# Altium schematic symbol library SMART_WATCH_TOP.SCHLIB: 37 symbols
Pins are listed as number, name and electrical type; pins without a type are passive.

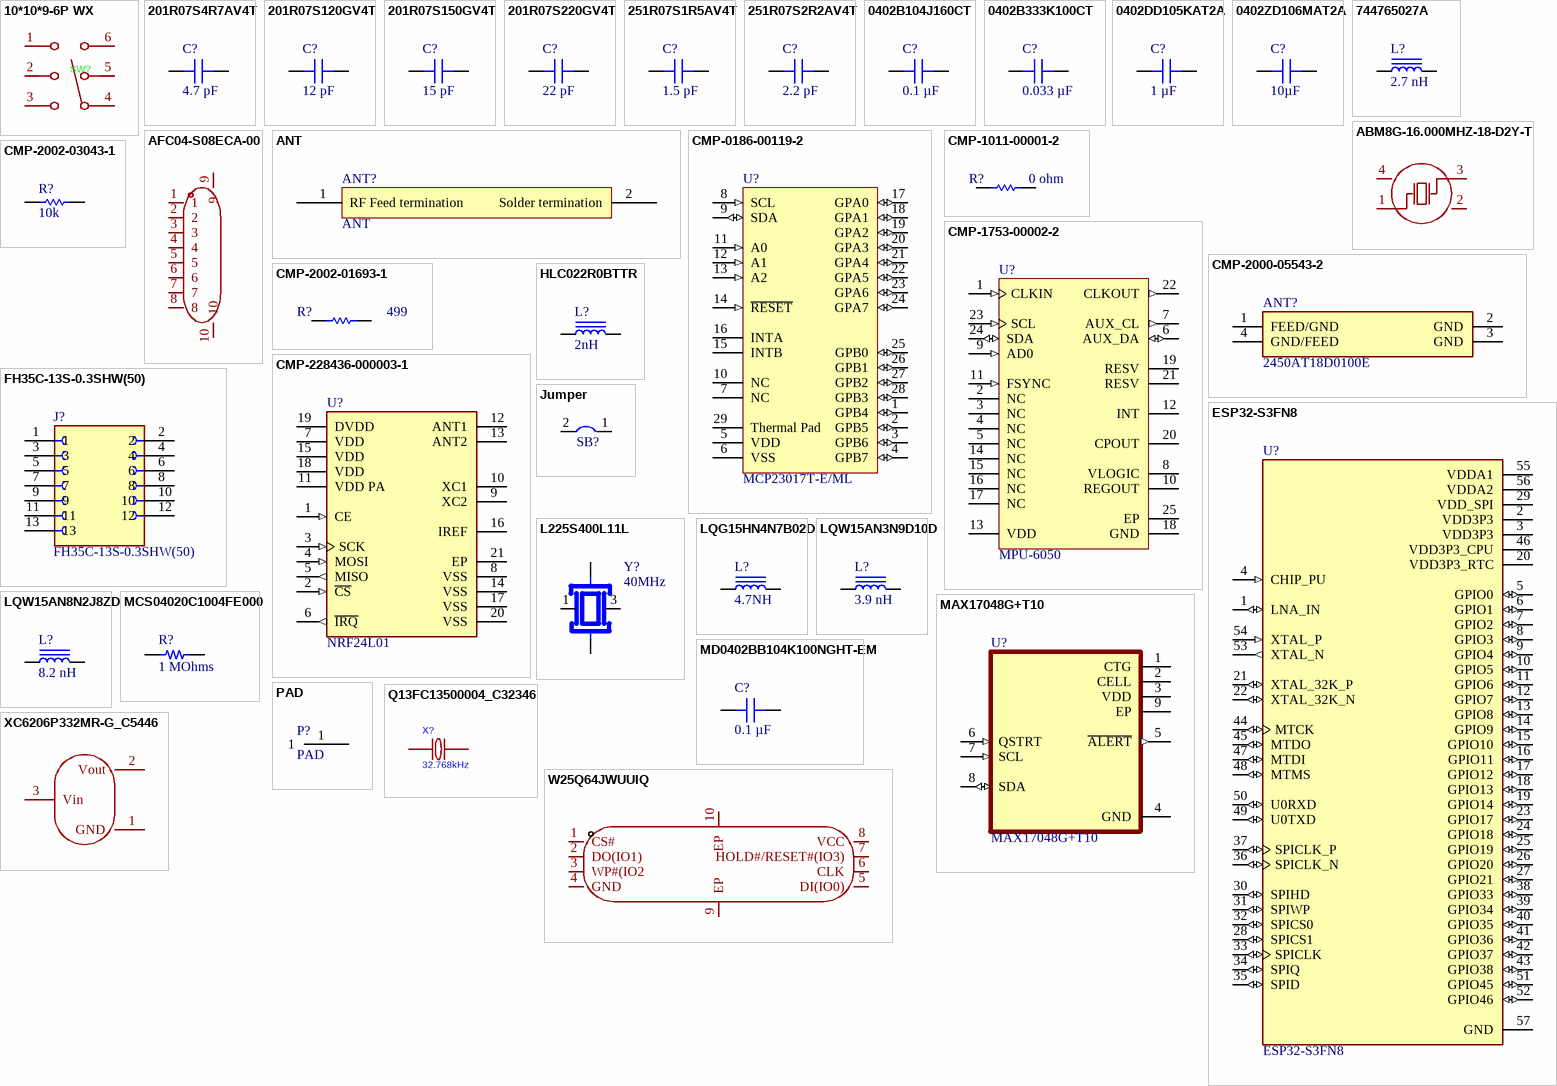
[diagram p0: symbols 10*10*9-6P WX to XC6206P332MR-G_C5446]

## 10*10*9-6P WX
designator SW?  (value not drawn)
Manufacturer: SHOU HAN(首韩); Add into BOM: yes; Symbol: 10*10*9-6P WX; Device: 10*10*9-6P WX; LCSC Part Name: 10*10*9-6P WX; Supplier Part: C2858290; Manufacturer Part: 10*10*9-6P WX; Supplier Footprint: SMD-6P,10x10mm; JLCPCB Part Class: Extended Part; Datasheet: https://atta.szlcsc.com/upload/public/pdf/source/20240424/64EDFF5ED40B20706A75A6A52414BAAA.pdf; Supplier: LCSC; Convert to PCB: yes
footprint SW-SMD-6P-L10.5-W10.0_C2858290
3D model SW-SMD-6P-L10.5-W10.0_C2858290
pins: 1, 2, 3, 4, 5, 6

## 201R07S4R7AV4T
designator C?, comment 4.7 pF
CAP CER 4.7PF 200V C0G/NP0 0402; Part Number: 201R07S4R7AV4T; manufacturer: Johanson Technology Inc.; Temperature Coefficient: C0G, NP0; Tolerance: ±0.05pF; Capacitance: 4.7 pF; Applications: RF, Microwave, High Frequency; componentlink1description: Datasheet; componentlink1url: https://www.johansontechnology.com/downloads/catalog/johanson-technology-multi-layer-high-q-capacitors.pdf; componentlink2description: DigiKey Link; componentlink2url: https://www.digikey.com/en/products/detail/johanson-technology-inc/201R07S4R7AV4T/9658851; Device Package: 0402 (1005 Metric); Features: High Q, Low Loss, Ultra Low ESR; lastupdated: 2/9/2024 8:04:23 PM; Lifecycle Status: Active; Minimum Order: 1; Mounting Type: Surface Mount, MLCC; Operating Temperature: -55°C ~ 125°C; Package / Case: 0402 (1005 Metric); packaging: TapeAndReel; partid: 45674; Part Status: Active; price: 0.15; series: S; Size / Dimension: 0.040" L x 0.020" W (1.02mm x 0.51mm); Supplier 1: DigiKey; Supplier Part Number 1: 712-1682-1-ND; Thickness (Max): 0.024" (0.61mm); value: 4.7 pF; Voltage - Rated: 200V
footprint CAP 0402_1005
pins: 1, 2

## 201R07S120GV4T
designator C?  Capacitance: 12 pF
CAP CER 12PF 200V C0G/NP0 0402; Part Number: 0402CG120J500NT; Manufacturer: FH (Guangdong Fenghua Advanced Tech); Applications: RF, Microwave, High Frequency; Device Package: 0402 (1005 Metric); Mounting Type: Surface Mount, MLCC; Size / Dimension: 0.040" L x 0.020" W (1.02mm x 0.51mm); MFR.Part #: 0402CG120J500NT; JLCPCB Part #: C1547
footprint CAP 0402_1005
pins: 1, 2

## 201R07S150GV4T
designator C?  Capacitance: 15 pF
CAP CER 15PF 200V C0G/NP0 0402; Part Number: 0402CG150J500NT; Manufacturer: FH (Guangdong Fenghua Advanced Tech); Applications: RF, Microwave, High Frequency; Device Package: 0402 (1005 Metric); Mounting Type: Surface Mount, MLCC; Size / Dimension: 0.040" L x 0.020" W (1.02mm x 0.51mm); MFR.Part #: 0402CG150J500NT; JLCPCB Part #: C1548
footprint CAP 0402_1005
pins: 1, 2

## 201R07S220GV4T
designator C?, comment 22 pF
CAP CER 22PF 200V C0G/NP0 0402; Part Number: 201R07S220GV4T; manufacturer: Johanson Technology Inc.; Temperature Coefficient: C0G, NP0; Tolerance: ±2%; Capacitance: 22 pF; Applications: RF, Microwave, High Frequency; componentlink1description: Datasheet; componentlink1url: https://www.johansontechnology.com/downloads/catalog/johanson-technology-multi-layer-high-q-capacitors.pdf; componentlink2description: DigiKey Link; componentlink2url: https://www.digikey.com/en/products/detail/johanson-technology-inc/201R07S220GV4T/9658867; Device Package: 0402 (1005 Metric); Features: High Q, Low Loss, Ultra Low ESR; lastupdated: 2/9/2024 8:04:18 PM; Lifecycle Status: Active; Minimum Order: 1; Mounting Type: Surface Mount, MLCC; Operating Temperature: -55°C ~ 125°C; Package / Case: 0402 (1005 Metric); packaging: TapeAndReel; partid: 45669; Part Status: Active; price: 0.06; series: S; Size / Dimension: 0.040" L x 0.020" W (1.02mm x 0.51mm); Supplier 1: DigiKey; Supplier Part Number 1: 712-1698-1-ND; Thickness (Max): 0.024" (0.61mm); value: 22 pF; Voltage - Rated: 200V
footprint CAP 0402_1005
pins: 1, 2

## 251R07S1R5AV4T
designator C?, comment 1.5 pF
CAP CER 1.5PF 250V C0G/NP0 0402; Part Number: 251R07S1R5AV4T; manufacturer: Johanson Technology Inc.; Temperature Coefficient: C0G, NP0; Tolerance: ±0.05pF; Capacitance: 1.5 pF; Applications: RF, Microwave, High Frequency; componentlink1description: Datasheet; componentlink1url: https://www.johansontechnology.com/downloads/catalog/johanson-technology-multi-layer-high-q-capacitors.pdf; componentlink2description: DigiKey Link; componentlink2url: https://www.digikey.com/en/products/detail/johanson-technology-inc/251R07S1R5AV4T/9658837; Device Package: 0402 (1005 Metric); Features: High Q, Low Loss, Ultra Low ESR; lastupdated: 2/9/2024 8:04:21 PM; Lifecycle Status: Active; Minimum Order: 1; Mounting Type: Surface Mount, MLCC; Operating Temperature: -55°C ~ 125°C; Package / Case: 0402 (1005 Metric); packaging: TapeAndReel; partid: 12240; Part Status: Active; price: 0.05; series: S; Size / Dimension: 0.040" L x 0.020" W (1.02mm x 0.51mm); Supplier 1: DigiKey; Supplier Part Number 1: 712-1668-1-ND; Thickness (Max): 0.024" (0.61mm); value: 1.5 pF; Voltage - Rated: 250V
footprint CAP 0402_1005
pins: 1, 2

## 251R07S2R2AV4T
designator C?, comment 2.2 pF
CAP CER 2.2PF 250V C0G/NP0 0402; Part Number: 251R07S2R2AV4T; manufacturer: Johanson Technology Inc.; Temperature Coefficient: C0G, NP0; Tolerance: ±0.05pF; Capacitance: 2.2 pF; Applications: RF, Microwave, High Frequency; componentlink1description: Datasheet; componentlink1url: https://www.johansontechnology.com/downloads/catalog/johanson-technology-multi-layer-high-q-capacitors.pdf; componentlink2description: DigiKey Link; componentlink2url: https://www.digikey.com/en/products/detail/johanson-technology-inc/251R07S2R2AV4T/9658843; Device Package: 0402 (1005 Metric); Features: High Q, Low Loss, Ultra Low ESR; lastupdated: 2/9/2024 8:04:21 PM; Lifecycle Status: Active; Minimum Order: 1; Mounting Type: Surface Mount, MLCC; Operating Temperature: -55°C ~ 125°C; Package / Case: 0402 (1005 Metric); packaging: TapeAndReel; partid: 12355; Part Status: Active; price: 0.15; series: S; Size / Dimension: 0.040" L x 0.020" W (1.02mm x 0.51mm); Supplier 1: DigiKey; Supplier Part Number 1: 712-1674-1-ND; Thickness (Max): 0.024" (0.61mm); value: 2.2 pF; Voltage - Rated: 250V
footprint CAP 0402_1005
pins: 1, 2

## 0402B104J160CT
designator C?  Capacitance: 0.1 µF
100nF 16V X7R ±10% 0402 Multilayer Ceramic Capacitors MLCC - SMD/SMT ROHS; Manufacturer: YAGEO; MFR.Part #: CC0402KRX7R7BB104; Device Package: 0402 (1005 Metric); Size / Dimension: 0.039" L x 0.020" W (1.00mm x 0.50mm); JLCPCB Part #: C60474
footprint CAP 0402_1005
pins: 1, 2

## 0402B333K100CT
designator C?, comment 0.033 µF
CAP CER 0.033UF 10V X7R 0402; Part Number: 0402B333K100CT; manufacturer: Walsin Technology Corporation; Tolerance: ±10%; Capacitance: 0.033 µF; Applications: General Purpose; componentlink1description: Datasheet; componentlink1url: http://www.passivecomponent.com/wp-content/uploads/2018/10/MLCC.pdf; componentlink2description: DigiKey Link; componentlink2url: https://www.digikey.com/en/products/detail/walsin-technology-corporation/0402B333K100CT/9354700; Device Package: 0402 (1005 Metric); lastupdated: 2/9/2024 8:04:38 PM; Lifecycle Status: Active; Minimum Order: 1; Mounting Type: Surface Mount, MLCC; Operating Temperature: -55°C ~ 125°C; Package / Case: 0402 (1005 Metric); packaging: CutTape; partid: 1884; Part Status: Active; price: 0.01; series: -; Size / Dimension: 0.039" L x 0.020" W (1.00mm x 0.50mm); Supplier 1: DigiKey; Supplier Part Number 1: 1292-1202-1-ND; Temperature Coefficient: X7R; Thickness (Max): 0.022" (0.55mm); value: 0.033 µF; Voltage - Rated: 10V
footprint CAP 0402_1005
pins: 1, 2

## 0402DD105KAT2A
designator C?  Capacitance: 1 µF
10V 1uF X5R ±10% 0402 Multilayer Ceramic Capacitors MLCC - SMD/SMT ROHS; Part Number: CL05A105KP5NNNC; Manufacturer: Samsung Electro-Mechanics; Device Package: 0402 (1005 Metric); Size / Dimension: 0.039" L x 0.020" W (1.00mm x 0.50mm); MFR.Part #: CL05A105KP5NNNC; JLCPCB Part #: C14445
footprint CAP 0402_1005
pins: 1, 2

## 0402ZD106MAT2A
designator C?, comment 10µF
CAP CER 10UF 10V X5R 0402; Part Number: 0402ZD106MAT2A; manufacturer: AVX Corporation; Tolerance: ±20%; Capacitance: 10µF; Applications: General Purpose; componentlink1description: Datasheet; componentlink1url: http://datasheets.avx.com/cx5r.pdf; componentlink2description: DigiKey Link; componentlink2url: http://digikey.com/product-detail/en/avx-corporation/0402ZD106MAT2A/478-10052-1-ND/6564275; Device Package: 0402 (1005 Metric); lastupdated: 2/8/2022 12:26:50 PM; Lifecycle Status: Active; Minimum Order: 1; Mounting Type: Surface Mount, MLCC; Operating Temperature: -55°C ~ 85°C; Package / Case: 0402 (1005 Metric); packaging: TapeAndReel; partid: 6854; Part Status: Active; price: 0.24; series: -; Size / Dimension: 0.039" L x 0.020" W (1.00mm x 0.50mm); Supplier 1: DigiKey; Supplier Part Number 1: 478-10052-1-ND; Temperature Coefficient: X5R; Thickness (Max): 0.028" (0.71mm); value: 10µF; Voltage - Rated: 10V
footprint CAP 0402_1005
pins: 1, 2

## 744765027A
designator L?, comment 2.7 nH
FIXED IND 2.7NH 640MA 120MOHM SM; Part Number: 744765027A; Manufacturer: Würth Elektronik; DC Resistance (DCR): 120mOhm Max; Frequency - Self Resonant: 6GHz; Inductance Frequency - Test: 250 MHz; Material - Core: Ceramic; Q @ Freq: 16 @ 250MHz; Shielding: Unshielded; Tolerance: ±0.2nH; Type: Drum Core, Wirewound; ComponentLink1Description: Datasheet; ComponentLink1URL: https://katalog.we-online.de/pbs/datasheet/744765027A.pdf; ComponentLink2Description: DigiKey Link; ComponentLink2URL: https://www.digikey.com/en/products/detail/würth-elektronik/744765027A/1994078; Current Rating (Amps): 640 mA; Device Package: 0402 (1005 Metric); Height - Seated (Max): 0.024" (0.60mm); Inductance: 2.7 nH; LastUpdated: 6/3/2024 8:03:31 PM; Lifecycle Status: Active; Minimum Order: 1; Mounting Type: Surface Mount; Operating Temperature: -40°C ~ 125°C; Package / Case: 0402 (1005 Metric); Packaging: TapeAndReel; PartId: 680; Part Status: Active; Price: 0.27; Ratings: AEC-Q200; Series: WE-KI; Size / Dimension: 0.039" L x 0.022" W (1.00mm x 0.55mm); Supplier 1: DigiKey; Supplier Part Number 1: 732-1708-1-ND; Supplier Device Package: 0402 (1005 Metric); Value: 2.7 nH
footprint IND 0402_1005 RF WW
pins: 1, 2

## ABM8G-16.000MHZ-18-D2Y-T
designator X?, comment 16MHz  (value not drawn)
Manufacturer: ABRACON; Symbol: ABM8G-16.000MHZ-18-D2Y-T; Add into BOM: yes; Normal temperature Frequency Tolerance: ±20ppm; Frequency Stability(Full temperature range): ±30ppm; Equivalent Series Resistance (ESR): 80Ω; Device: ABM8G-16.000MHZ-18-D2Y-T; LCSC Part Name: 16MHz ±20ppm 18pF; Supplier Part: C1985423; Manufacturer Part: ABM8G-16.000MHZ-18-D2Y-T; Supplier Footprint: SMD3225-4P; JLCPCB Part Class: Extended Part; Datasheet: https://atta.szlcsc.com/upload/public/pdf/source/20180906/C276421_0DB5B9EE345225C827799AFD2B19ACDB.pdf; Supplier: LCSC; Convert to PCB: yes; Value: 16MHz
footprint CRYSTAL-SMD_4P-L3.2-W2.5-BL
3D model CRYSTAL-SMD_4P-L3.2-W2.5-BL
pins: 1 OSC1, 2, 3 OSC2, 4

## AFC04-S08ECA-00
designator FPC?  (value not drawn)
Manufacturer: JS(钜硕电子); Add into BOM: yes; Locking Feature: 抽屉式; Number of Contacts: 8P; Pitch: 0.5mm; FFC, FCB Thickness: 0.3mm; Symbol: AFC04-S08ECA-00; Device: AFC04-S08ECA-00; LCSC Part Name: 间距:0.5mm P数:8P 抽屉式 上接; Supplier Part: C883637; Manufacturer Part: AFC04-S08ECA-00; Supplier Footprint: SMD,P=0.5mm,卧贴; JLCPCB Part Class: Extended Part; Datasheet: https://atta.szlcsc.com/upload/public/pdf/source/20201020/C883635_E94301B494140F0FE9C86E243B1AABF7.pdf; Supplier: LCSC; Convert to PCB: yes; Contact Type: Contact,Top; Mounting Type: 卧贴; Height Above Board: 1.2mm; Operating Temperature Range: -25℃~+85℃
footprint FPC-SMD_AFC04-S08ECA-00
3D model FPC-SMD_AFC04-S08ECA-00
pins: 1, 2, 3, 4, 5, 6, 7, 8, 9, 10

## ANT
designator ANT?
footprint CAPC3216X13N (Chip Capacitor, 2-Leads, Body 3.20x1.60mm, IPC Medium Density)
pins: 1 RF Feed termination, 2 Solder termination

## CMP-0186-00119-2
designator U?, comment MCP23017T-E/ML
16-Bit I/O Expander with Serial Interface, 28-Pin QFN, Extended Temperature, Tape and Reel; RevisionNote: URLs added.; PackageDescription: 28-Lead Plastic Quad Flat, No Lead Package (ML) - 6x6 mm Body [QFN] with 0.55 mm Contact Length; ComponentLink3Description: Package Specification; ComponentLink2URL: http://ww1.microchip.com/downloads/en/DeviceDoc/21952b.pdf; PackageVersion: revBB, Aug-2009; PackageReference: QFN-ML28; ComponentLink2Description: Datasheet; ComponentLink1URL: http://www.microchip.com/; DatasheetVersion: revB, Feb-2007; ComponentLink3URL: http://www.microchip.com/stellent/groups/techpub_sg/documents/packagingspec/en012702.pdf; Code_JEDEC: MO-220; ComponentLink1Description: Manufacturer URL
footprint QFN-ML28_M (QFN, 28-Leads, Body 6x6mm, Pitch 0.65mm, Thermal Pad 4.2x4.2mm, IPC Low Density)
footprint QFN-ML28_N (QFN, 28-Leads, Body 6x6mm, Pitch 0.65mm, Thermal Pad 4.2x4.2mm, IPC Medium Density)
footprint QFN-ML28_L (QFN, 28-Leads, Body 6x6mm, Pitch 0.65mm, Thermal Pad 4.2x4.2mm, IPC High Density)
pins: 1 GPB4 (io), 2 GPB5 (io), 3 GPB6 (io), 4 GPB7 (io), 5 VDD (power), 6 VSS (power), 7 NC, 8 SCL (in), 9 SDA (io), 10 NC, 11 A0 (in), 12 A1 (in), 13 A2 (in), 14 ~{RESET} (in), 15 INTB (oc), 16 INTA (oc), 17 GPA0 (io), 18 GPA1 (io), 19 GPA2 (io), 20 GPA3 (io), 21 GPA4 (io), 22 GPA5 (io), 23 GPA6 (io), 24 GPA7 (io), 25 GPB0 (io), 26 GPB1 (io), 27 GPB2 (io), 28 GPB3 (io), 29 Thermal Pad

## CMP-1011-00001-2
designator R?, comment resistance: 0 ohm  (hidden comment: RC0402JR-070RL)
Manufacturer: YAGEO; Part Number: RC0402JR-070RL; JLCPCB Part #: C60485; MFR.Part #: RC0402JR-070RL
footprint RESC1005X40X25NL05T10 (Chip Resistor, 2-Leads, Body 1.00x0.50mm, IPC Medium Density)
footprint RESC1005X40X25ML05T10 (Chip Resistor, 2-Leads, Body 1.00x0.50mm, IPC Low Density)
footprint RESC1005X40X25LL05T10 (Chip Resistor, 2-Leads, Body 1.00x0.50mm, IPC High Density)
pins: 1, 2
1 alternate drawing of the same symbol

## CMP-1753-00002-2
designator U?, comment MPU-6050
3-Axis Gyroscope, Accelerometer and a Digital Motion Processor(TM) (DMP), 2.375 to 3.46 V, -40 to 85 degC, 24-Pin QFN, RoHS, Tape and Reel; Manufacturer: InvenSense; Featured Product: MPU-60506-Axis,IntegratedI²CSolution; Other Names: 1428-1007-2 / MPU6050; Sensor Type: MotionTracking; Online Catalog: MPU-6000™Series; Unit PriceUSD: Digital; Datasheet Version: Rev. 3.3, 05/2012; Category: Sensors,Transducers; Datasheet URL: http://datasheet.octopart.com/MPU-6050-InvenSense-datasheet-14421344.pdf; Family: Multifunction; Standard Package: 5,000; Manufacturer URL: http://www.invensense.com/; Output Type: Digital; Dynamic Catalog: MPU-6000™Series
footprint IS-QFN-24_V (QFN, 24-Leads, Body 4x4mm, Pitch 0.5mm, Thermal Pad 2.7x2.6mm)
pins: 1 CLKIN (in) "Optional external reference clock input. Connect to GND if unused.", 2 NC "Not internally connected. May be used for PCB trace routing", 3 NC "Not internally connected. May be used for PCB trace routing", 4 NC "Not internally connected. May be used for PCB trace routing", 5 NC "Not internally connected. May be used for PCB trace routing", 6 AUX_DA (io) "I2C master serial data, for connecting to external sensors", 7 AUX_CL (out) "I2C Master serial clock, for connecting to external sensors", 8 VLOGIC (power) "Digital I/O supply voltage", 9 AD0 (in) "I2C Slave Address LSB (AD0)", 10 REGOUT "Regulator filter capacitor connection", 11 FSYNC (in) "Frame synchronization digital input. Connect to GND if unused.", 12 INT (oc) "Interrupt digital output (totem pole or open-drain)", 13 VDD (power) "Power supply voltage and Digital I/O supply voltage", 14 NC "Not internally connected. May be used for PCB trace routing", 15 NC "Not internally connected. May be used for PCB trace routing", 16 NC "Not internally connected. May be used for PCB trace routing", 17 NC "Not internally connected. May be used for PCB trace routing", 18 GND (power) "Power supply ground", 19 RESV "Reserved. Do not connect", 20 CPOUT "Charge pump capacitor connection", 21 RESV "Reserved. Do not connect", 22 CLKOUT (out) "System clock output", 23 SCL (in) "System clock output  I2C serial clock (SCL)", 24 SDA (io) "I2C serial data (SDA)", 25 EP (power) "Exposed Pad"

## CMP-2000-05543-2
designator ANT?, comment 2450AT18D0100E
RF ANT 2.4GHZ CHIP SOLDER SMD; Manufacturer: Johanson Dielectrics; Gain: -1dB; Bandwidth: 100MHz; Frequency: 2.45GHz; Power Rating: 2W; Impedance: 50R; Number of Bands: 1; Return Loss: -10dB; Case/Package: SMD/SMT; Width: 1.6mm; RoHS Compliant: Yes; Package Quantity: 3000; Height: 0.047inch; Series: -; Max Power Dissipation: 2W; Mount: Surface Mount; Termination: Solder; Radiation Hardening: No; Packaging: Tape and Reel; Length: 3.2mm; JLCPCB Part #: C2917718; MFR.Part #: 2450AT18D0100E
footprint FP-2450AT18D0100E-MFG
pins: 1 FEED/GND (power), 2 GND (power), 3 GND (power), 4 GND/FEED (power)

## CMP-2002-01693-1
designator R?, comment resistance: 499  (hidden comment: TNPW0402499RBEED)
Part Number: RC0402FR-07499RL; Manufacturer: YAGEO; JLCPCB Part #: C137970; MFR.Part #: RC0402FR-07499RL
footprint RESC1005X40X20NL05T10 (Chip Resistor, 2-Leads, Body 1.00x0.50mm, IPC Medium Density)
footprint RESC1005X40X20LL05T10 (Chip Resistor, 2-Leads, Body 1.00x0.50mm, IPC High Density)
footprint RESC1005X40X20ML05T10 (Chip Resistor, 2-Leads, Body 1.00x0.50mm, IPC Low Density)
pins: 1, 2
1 alternate drawing of the same symbol

## CMP-2002-03043-1
designator R?, comment resistance: 10k  (hidden comment: 0402WGF1002TCE)
Manufacturer: UNI-ROYAL(Uniroyal Elec); Part Number: 0402WGF1002TCE; JLCPCB Part #: C25744; MFR.Part #: 0402WGF1002TCE
footprint RESC1005X40X25ML05T10 (Chip Resistor, 2-Leads, Body 1.00x0.50mm, IPC Low Density)
footprint RESC1005X40X25LL05T10 (Chip Resistor, 2-Leads, Body 1.00x0.50mm, IPC High Density)
footprint RESC1005X40X25NL05T10 (Chip Resistor, 2-Leads, Body 1.00x0.50mm, IPC Medium Density)
pins: 1, 2
1 alternate drawing of the same symbol

## CMP-228436-000003-1
designator U?, comment NRF24L01
IC RF TXRX ISM>1GHZ 20VFQFN
footprint FP-NRF24L01-IPC_C
footprint FP-NRF24L01-IPC_B
footprint FP-NRF24L01-IPC_A
pins: 1 CE (in), 2 ~{CS} (in), 3 SCK (in), 4 MOSI (in), 5 MISO (out), 6 ~{IRQ} (out), 7 VDD (power), 8 VSS (power), 9 XC2, 10 XC1, 11 VDD PA (power), 12 ANT1, 13 ANT2, 14 VSS (power), 15 VDD (power), 16 IREF, 17 VSS (power), 18 VDD (power), 19 DVDD (power), 20 VSS (power), 21 EP (power)

## ESP32-S3FN8
designator U?
Espressif Systems [ENGINEERING SAMPLES]SMD IC , Dual-Core MCU, Wi-Fi 2.4G & BLE 5.0 combo, 8 MB Octal SPI PSRAM, QFN 56-pin, 7*7 mm; SnapEDA_Link: https://www.snapeda.com/parts/ESP32-S3FN8/Espressif+Systems/view-part/?ref=snap; Package: None; Value: *; MF: Espressif Systems; MP: ESP32-S3FN8; Check_prices: https://www.snapeda.com/parts/ESP32-S3FN8/Espressif+Systems/view-part/?ref=eda
footprint QFN40P700X700X90-57N
pins: 1 LNA_IN (io), 2 VDD3P3 (power), 3 VDD3P3 (power), 4 CHIP_PU (in), 5 GPIO0 (io), 6 GPIO1 (io), 7 GPIO2 (io), 8 GPIO3 (io), 9 GPIO4 (io), 10 GPIO5 (io), 11 GPIO6 (io), 12 GPIO7 (io), 13 GPIO8 (io), 14 GPIO9 (io), 15 GPIO10 (io), 16 GPIO11 (io), 17 GPIO12 (io), 18 GPIO13 (io), 19 GPIO14 (io), 20 VDD3P3_RTC (power), 21 XTAL_32K_P (io), 22 XTAL_32K_N (io), 23 GPIO17 (io), 24 GPIO18 (io), 25 GPIO19 (io), 26 GPIO20 (io), 27 GPIO21 (io), 28 SPICS1 (io), 29 VDD_SPI (power), 30 SPIHD (io), 31 SPIWP (io), 32 SPICS0 (io), 33 SPICLK (io), 34 SPIQ (io), 35 SPID (io), 36 SPICLK_N (io), 37 SPICLK_P (io), 38 GPIO33 (io), 39 GPIO34 (io), 40 GPIO35 (io), 41 GPIO36 (io), 42 GPIO37 (io), 43 GPIO38 (io), 44 MTCK (io), 45 MTDO (io), 46 VDD3P3_CPU (power), 47 MTDI (io), 48 MTMS (io), 49 U0TXD (io), 50 U0RXD (io), 51 GPIO45 (io), 52 GPIO46 (io), 53 XTAL_N (out), 54 XTAL_P (in), 55 VDDA1 (power), 56 VDDA2 (power), 57 GND (power)

## FH35C-13S-0.3SHW(50)
designator J?
Price: None; Package: None; Availability: Unavailable; MP: FH35C-13S-0.3SHW(50); Value: *
footprint HRS_FH35C-13S-0.3SHW(50)
pins: 1, 2, 3, 4, 5, 6, 7, 8, 9, 10, 11, 12, 13

## HLC022R0BTTR
designator L?, comment 2nH
FIXED IND 2NH 596MA 180 MOHM SMD; Part Number: HLC022R0BTTR; Manufacturer: AVX Corporation; DC Resistance (DCR): 180mOhm Max; Frequency - Self Resonant: 17GHz; Inductance Frequency - Test: 450MHz; Material - Core: Non-Magnetic; Q @ Freq: 26 @ 450MHz; Shielding: Unshielded; Tolerance: ±0.1nH; Type: Multilayer; ComponentLink1Description: Datasheet; ComponentLink1URL: //media.digikey.com/pdf/Data%20Sheets/AVX%20PDFs/MLO%20High%20Current%20Inductors.pdf; ComponentLink2Description: DigiKey Link; ComponentLink2URL: http://digikey.com/product-detail/en/avx-corporation/HLC022R0BTTR/478-7195-1-ND/3528423; Current Rating (Amps): 596mA; Device Package: 0402 (1005 Metric); Height - Seated (Max): 0.018" (0.45mm); Inductance: 2nH; LastUpdated: 9/2/2020 1:24:25 AM; Lifecycle Status: Active; Minimum Order: 1; Mounting Type: Surface Mount; Operating Temperature: -55°C ~ 125°C; Package / Case: 0402 (1005 Metric); Packaging: TapeAndReel; PartId: 1747; Part Status: Active; Price: 0.14; Series: MLO™; Size / Dimension: 0.039" L x 0.023" W (1.00mm x 0.58mm); Supplier 1: DigiKey; Supplier Part Number 1: 478-7195-1-ND; Supplier Device Package: 0402 (1005 Metric); Value: 2nH
footprint IND 0402_1005
pins: 1, 2

## Jumper
designator SB?  (value not drawn)
footprint Jumper
pins: 1, 2

## L225S400L11L
designator Y?  value 40MHz  (hidden comment: L225S400L11L)
-40℃~+85℃ 12pF 40MHz Crystal Oscillator ±10ppm SMD2520-4P Crystals ROHS; Manufacturer: Lucki; Package: SMD2520-4P; JLCPCB Part #: C5261125; MFR.Part #: L225S400L11L
footprint C5261125
pins: 1 IN/OUT, 2 GND (power), 2 GND (power), 3 OUT/IN, 4 GND (power)

## LQG15HN4N7B02D
designator L?, comment 4.7NH
200mΩ 300mA 4.7nH 4GHz 8@100MHz 0402 Inductors (SMD) ROHS; Manufacturer: Sunlord; MFR.Part #: SDCL1005C4N7STDF; value: 4.7NH; JLCPCB Part #: C13595; package: 0402
footprint Murata LQG15 0402
pins: 1, 2

## LQW15AN3N9D10D
designator L?, comment 3.9 nH
FIXED IND 3.9NH 900MA 0.04OHM SM; Part Number: LQW15AN3N9D10D; Manufacturer: Murata Electronics; DC Resistance (DCR): 40mOhm Max; Frequency - Self Resonant: 7GHz; Inductance Frequency - Test: 100 MHz; Material - Core: Non-Magnetic; Q @ Freq: 30 @ 250MHz; Shielding: Unshielded; Tolerance: ±0.5nH; Type: Drum Core, Wirewound; ComponentLink1Description: Datasheet; ComponentLink1URL: https://search.murata.co.jp/Ceramy/image/img/P02/JELF243A-0051.pdf; ComponentLink2Description: DigiKey Link; ComponentLink2URL: https://www.digikey.com/en/products/detail/murata-electronics/LQW15AN3N9D10D/2594912; Current Rating (Amps): 900 mA; Device Package: 0402 (1005 Metric); Height - Seated (Max): 0.024" (0.60mm); Inductance: 3.9 nH; LastUpdated: 7/19/2024 11:52:53 PM; Lifecycle Status: Active; Minimum Order: 1; Mounting Type: Surface Mount; Operating Temperature: -55°C ~ 125°C; Package / Case: 0402 (1005 Metric); Packaging: TapeAndReel; PartId: 171; Part Status: Active; Price: 0.05; Series: LQW15; Size / Dimension: 0.039" L x 0.024" W (1.00mm x 0.60mm); Supplier 1: DigiKey; Supplier Part Number 1: 490-6815-1-ND; Value: 3.9 nH
footprint Murata LQW15 0402
pins: 1, 2

## LQW15AN8N2J8ZD
designator L?, comment 8.2 nH
FIXED IND 8.2NH 1.5A 0.069OHM SM; Part Number: LQW15AN8N2J8ZD; Manufacturer: Murata Electronics; DC Resistance (DCR): 69mOhm Max; Frequency - Self Resonant: 6.5GHz; Inductance Frequency - Test: 100 MHz; Material - Core: Non-Magnetic; Q @ Freq: 32 @ 250MHz; Shielding: Unshielded; Tolerance: ±5%; Type: Drum Core, Wirewound; ComponentLink1Description: Datasheet; ComponentLink1URL: https://search.murata.co.jp/Ceramy/image/img/P02/JELF243A-9138.pdf; ComponentLink2Description: DigiKey Link; ComponentLink2URL: https://www.digikey.com/en/products/detail/murata-electronics/LQW15AN8N2J8ZD/6799017; Current Rating (Amps): 1.5 A; Device Package: 0402 (1005 Metric); Height - Seated (Max): 0.024" (0.60mm); Inductance: 8.2 nH; LastUpdated: 7/19/2024 11:52:53 PM; Lifecycle Status: Active; Minimum Order: 1; Mounting Type: Surface Mount; Operating Temperature: -55°C ~ 125°C; Package / Case: 0402 (1005 Metric); Packaging: TapeAndReel; PartId: 154; Part Status: Active; Price: 0.06; Ratings: AEC-Q200; Series: LQW15; Size / Dimension: 0.039" L x 0.024" W (1.00mm x 0.60mm); Supplier 1: DigiKey; Supplier Part Number 1: 490-15592-1-ND; Value: 8.2 nH
footprint Murata LQW15 0402
pins: 1, 2

## MAX17048G+T10
designator U?
3ÂµA 1-Cell/2-Cell Fuel Gauge with ModelGauge; MF: Analog Devices; Package: TDFN-8 Maxim; Price: None; Check_prices: https://www.snapeda.com/parts/MAX17048G+T10/Analog+Devices/view-part/?ref=eda; Value: *; SnapEDA_Link: https://www.snapeda.com/parts/MAX17048G+T10/Analog+Devices/view-part/?ref=snap; MP: MAX17048G+T10; Availability: In Stock; Purchase-URL: https://pricing.snapeda.com/search/part/MAX17048G+T10/?ref=eda
footprint SON50P200X200X80-9N
pins: 1 CTG (power), 2 CELL (power), 3 VDD (power), 4 GND (power), 5 ~{ALERT} (out), 6 QSTRT (in), 7 SCL (in), 8 SDA (io), 9 EP (power)

## MCS04020C1004FE000
designator R?, comment 1 MOhms
RES SMD 1M OHM 1% 1/10W 0402; Part Number: MCS04020C1004FE000; Manufacturer: Vishay Beyschlag; Power (Watts): 0.1W, 1/10W; Temperature Coefficient: ±50ppm/°C; Value: 1 MOhms; ComponentLink1Description: Datasheet; ComponentLink1URL: http://www.vishay.com/docs/28705/mcx0x0xpro.pdf; ComponentLink2Description: DigiKey Link; ComponentLink2URL: http://digikey.com/product-detail/en/vishay-beyschlag/MCS04020C1004FE000/MCS0402-1.00M-CFCT-ND/2607931; Composition: Thin Film; Device Package: 0402 (1005 Metric); Features: Anti-Sulfur; Height - Seated (Max): 0.015" (0.37mm); LastUpdated: 2/9/2024 8:30:21 PM; Lifecycle Status: Active; Minimum Order: 1; Number of Terminations: 2; Operating Temperature: -55°C ~ 155°C; Package / Case: 0402 (1005 Metric); Packaging: TapeAndReel; PartId: 3158; Part Status: Active; Price: 0.03; Resistance: 1 MOhms; Series: MCS - Professional; Size / Dimension: 0.039" L x 0.020" W (1.00mm x 0.50mm); Supplier 1: DigiKey; Supplier Part Number 1: MCS0402-1.00M-CFCT-ND; Supplier Device Package: 0402; Tolerance: ±1%
footprint RES 0402_1005
pins: 1, 2

## MD0402BB104K100NGHT-EM
designator C?, comment 0.1 µF
CAP CER 0.1UF 10V X7R 0402; Part Number: MD0402BB104K100NGHT-EM; manufacturer: Knowles Novacap; Tolerance: ±10%; Capacitance: 0.1 µF; Applications: Medical, Non-Critical; componentlink1description: Datasheet; componentlink1url: https://mm.digikey.com/Volume0/opasdata/d220001/medias/docus/5546/MD Series R3.pdf; componentlink2description: DigiKey Link; componentlink2url: https://www.digikey.com/en/products/detail/knowles-novacap/MD0402BB104K100NGHT-EM/21406861; Device Package: 0402 (1005 Metric); lastupdated: 2/9/2024 8:03:17 PM; Lifecycle Status: Active; Minimum Order: 1; Mounting Type: Surface Mount, MLCC; Operating Temperature: -55°C ~ 125°C; Package / Case: 0402 (1005 Metric); packaging: TapeAndReel; partid: 56675; price: 1.21; series: MD; Supplier 1: DigiKey; Supplier Part Number 1: 1763-MD0402BB104K100NGHT-EMCT-ND; Temperature Coefficient: X7R; value: 0.1 µF; Voltage - Rated: 10V
footprint CAP 0402_1005
pins: 1, 2

## PAD
designator P?
footprint PCBComponent_1
pins: 1

## Q13FC13500004_C32346
designator X?, comment 32.768kHz
Manufacturer: Seiko Epson; MFR.Part #: Q13FC13500004; Value: 32.768kHz; JLCPCB Part #: C32346; Parameter 1: *
footprint FC-135R_L3.2-W1.5
3D model FC-135R_L3.2-W1.5
pins: 1, 2

## W25Q64JWUUIQ
designator U?  (value not drawn)
Manufacturer: Winbond(华邦); Add into BOM: yes; Interface: SPI; Memory Size: 64Mbit; Clock Frequency: 133MHz; Voltage - Supply: 1.7V~1.95V; Program / Erase Cycles: 100,000 Cycles; Page Programming Time (Tpp): 800us; Data Retention - TDR (Year): 20 Years; Symbol: W25Q64JWUUIQ; Device: W25Q64JWUUIQ; LCSC Part Name: W25Q64JWUUIQ; Supplier Part: C6604692; Manufacturer Part: W25Q64JWUUIQ; Supplier Footprint: USON-8(3x4); JLCPCB Part Class: Extended Part; Datasheet: https://atta.szlcsc.com/upload/public/pdf/source/20210420/C2595075_E7A7725B7CF2DE50C07916BF10CAF3A1.pdf; Supplier: LCSC; Convert to PCB: yes; Operating Temperature: -
footprint USON-8_L4.0-W3.0-P0.80-BL_WINBOND_UU
3D model USON-8_L4.0-W3.0-H0.6-P0.80-BL_GD25Q32CNIGR
pins: 1 CS#, 2 DO(IO1), 3 WP#(IO2, 4 GND, 5 DI(IO0), 6 CLK, 7 HOLD#/RESET#(IO3), 8 VCC, 9 EP, 10 EP

## XC6206P332MR-G_C5446
designator U?, comment XC6206P332MR-G  (value not drawn)
Manufacturer: TOREX(特瑞仕); Device: XC6206P332MR-G_C5446; Add into BOM: yes; Maximum Input Voltage: 6V; Output Voltage: 3.3V; MAX Output Current: 200mA; Dropout Voltage: 680mV@(100mA); Output Polarity: Positive electrode; Number of Outputs: 1; Symbol: XC6206P332MR; LCSC Part Name: 输入6V 输出3.3V 200mA; Supplier Part: C5446; Manufacturer Part: XC6206P332MR-G; Supplier Footprint: SOT-23-3L; JLCPCB Part Class: Basic Part; Datasheet: https://atta.szlcsc.com/upload/public/pdf/source/20130823/1457706639850.pdf; Supplier: LCSC; Convert to PCB: yes; Power Supply Rejection Ratio (PSRR): -
footprint SOT-23-3_L2.9-W1.6-P1.90-LS2.8-BR
3D model SOT-23-3L_L2.9-W1.6-H1.1-LS2.8-P0.95
pins: 1 GND, 2 Vout, 3 Vin